# Altium footprint library CONV_LCB78_05-0.5.PcbLib: 1 footprints
Each footprint in its own frame and in the unit in brackets; x right, y up, seen from the top. Pads: shape width x height; smd on the part's side, far side on the other; paste and mask are expansions set on the pad; w line width, h text height; cw(c..) or ccw(c..) is an arc to the next point about the centre after c.
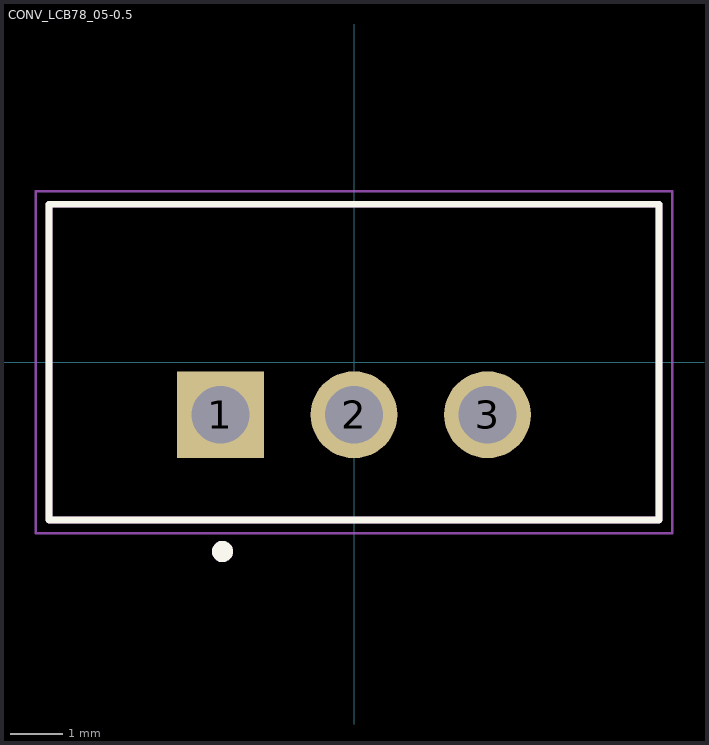
[diagram p0: the footprint, top view; thin cyan lines are the x and y axes]

## CONV_LCB78_05-0.5 [mm]
height 10.45
pads (3):
  rect 1.65x1.65 / inner round 1.65 / far side rect 1.65x1.65 hole 1.1: 1(-2.54,-1)
  round 1.65 hole 1.1: 2(0,-1) 3(2.54,-1)
Top Overlay:
  circle w0.2: c-2.5,-3.6 r0.1
  lines w0.127: -5.8,-3 -5.8,3 5.8,3 5.8,-3 -5.8,-3
Assembly Top:
  circle w0.2: c-2.5,-3.6 r0.1
  lines w0.127: -5.8,-3 -5.8,3 5.8,3 5.8,-3 -5.8,-3
Courtyard Top:
  lines w0.05: -6.05,-3.25 -6.05,3.25 6.05,3.25 6.05,-3.25 -6.05,-3.25